# EAGLE library part 212520-1006 (library 212520-1006)
Mini-Fit Max Vertical Header, Dual Row, 12 Circuits, Tin (Sn) Plating, Black Source: Datasheet <https://www.molex.com/pdm_docs/sd/2125201006_sd.pdf>
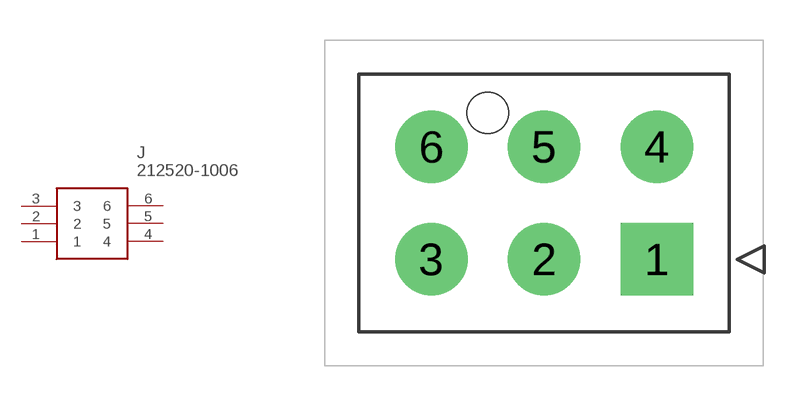
[diagram p0: symbol with the pads of 212520-1006; footprint 212520-1006]

Designator prefix J

## 212520-1006 (Description: Mini-Fit Max Vertical Header, Dual Row, 12 Circuits, Tin (Sn) Plating, Black; Height: 13.6mm; Manufacturer_Name: Molex; Manufacturer_Part_Number: 212520-1006; Mouser_Part_Number: 538-212520-1006; Mouser_Price-Stock: https://www.mouser.co.uk/ProductDetail/Molex/212520-1006?qs=pUKx8fyJudA8jKWmA%2FIrSg%3D%3D)  [212520-1006]
1  1
2  2
3  3
4  4
5  5
6  6

## Footprint 212520-1006 (pad centres in mm)
212520-1006
drill 1.8 pad 2.15 square: 1 0,0
drill 1.8 pad 2.15: 2 -4.2,0; 3 -8.4,0; 4 0,4.2; 5 -4.2,4.2; 6 -8.4,4.2
hole 1.54 at -6.3,5.46